# EAGLE library part L78L12 (library CYCFI_Power)
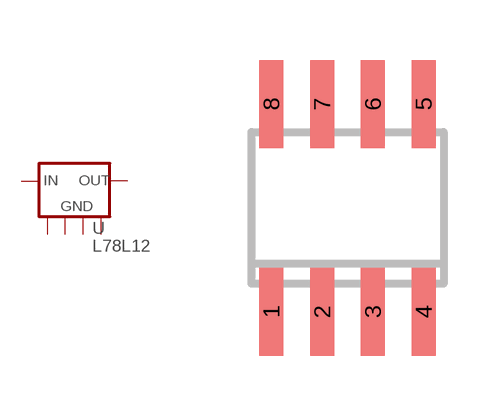
[diagram p2: symbol with the pads of SO8; footprint SO8]

Designator prefix -

## L78L12  [SO8]
1  OUT  pas
2  GND  in
3  GND1  in
6  GND2  in
7  GND3  in
8  IN  in

## Footprint SO8 (pad centres in mm)
smd 0.6 x 2.2: 1 -1.905,-2.6; 2 -0.635,-2.6; 3 0.635,-2.6; 4 1.905,-2.6; 5 1.905,2.6; 6 0.635,2.6; 7 -0.635,2.6; 8 -1.905,2.6